# Altium footprint library Footprint.PcbLib: 240 footprints (part 13 of 15)
Each footprint in its own frame and in the unit in brackets; x right, y up, seen from the top. Pads: shape width x height; smd on the part's side, far side on the other; paste and mask are expansions set on the pad; w line width, h text height; cw(c..) or ccw(c..) is an arc to the next point about the centre after c.
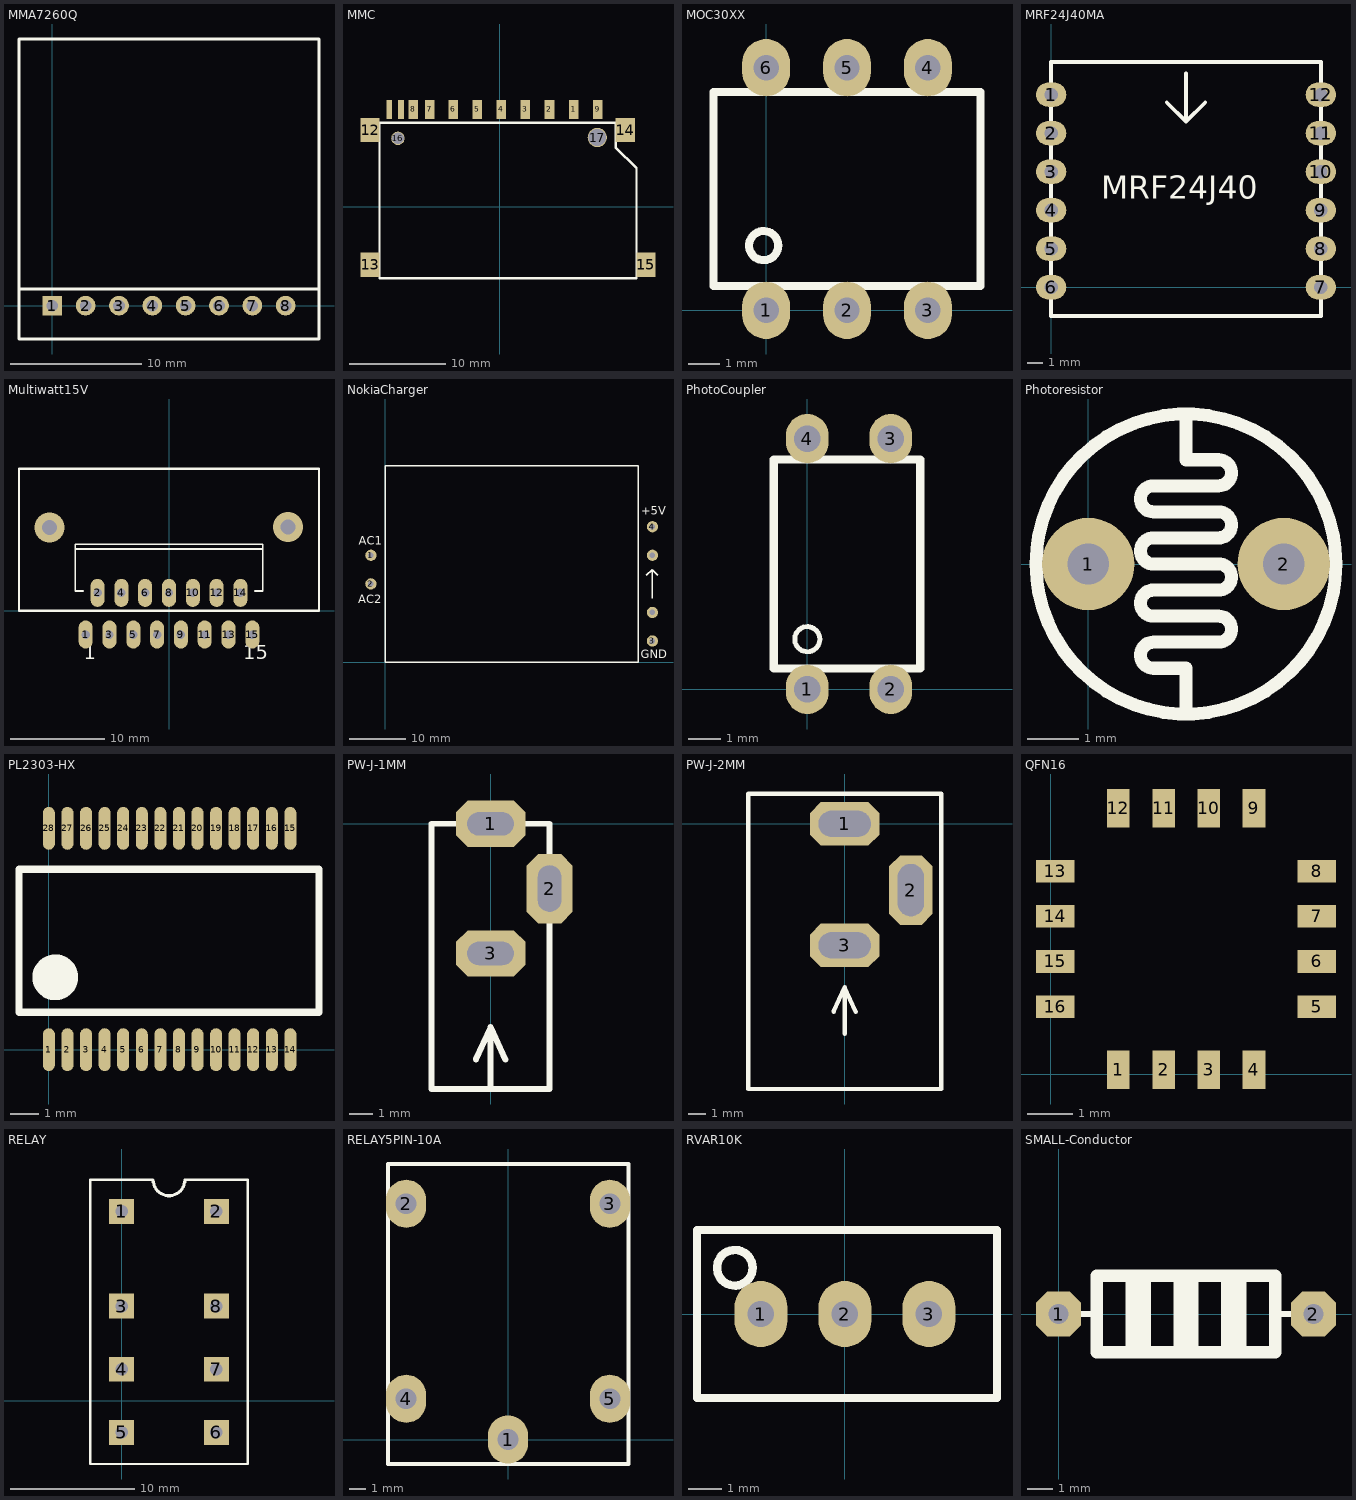
[diagram p12: the footprints below, top view; thin cyan lines are the x and y axes]

## MMA7260Q [mm] "Connector; Header; 8 Position"
pads (8):
  rect 1.5x1.5 hole 0.9: 1(0,0)
  round 1.5 hole 0.9: 2(2.54,0) 3(5.08,0) 4(7.62,0) 5(10.16,0) 6(12.7,0) 7(15.24,0) 8(17.78,0)
Top Overlay:
  lines w0.2: -2.54,1.27 20.32,1.27 ; -2.54,-2.54 20.32,-2.54 20.32,20.32 -2.54,20.32 -2.54,-2.54
3D body: height 1, standoff 0, extent -2.54,-2.54 20.32,20.32
3D body: height 2, standoff 1, extent 7.62,7.62 13.97,13.97

## MMC [mm]
pads (17):
  rect 1x2 smd: 1(7.67,10.109) 2(5.17,10.109) 3(2.67,10.109) 4(0.17,10.109) 5(-2.33,10.109) 6(-4.83,10.109) 7(-7.255,10.109) 8(-8.955,10.109) 9(10.17,10.109)
  rect 0.6x2 smd: 10(-10.255,10.109) 11(-11.455,10.109)
  rect 2x2.5 smd: 12(-13.455,7.95) 13(-13.455,-6.02) 14(13.024,7.95) 15(15.183,-6.02)
  round 1.4 hole 1.2: 16(-10.555,7.109)
  round 2 hole 1.8: 17(10.135,7.188)
Top Overlay:
  lines w0.254: -12.471,-7.417 14.199,-7.417 14.199,4.013 12.04,6.172 12.04,8.712 -12.471,8.712 -12.471,-7.417
3D body: height 3, standoff -1, extent -13.436,-20.196 15.164,9.804

## MOC30XX [mm]
pads (6):
  oval 1.5x1.8 hole 0.8: 1(0,0) 2(2.54,0) 3(5.08,0) 4(5.08,7.62) 5(2.54,7.62) 6(0,7.62)
Top Overlay:
  circle w0.254: c-0.077,2.032 r0.458
  lines w0.254: -1.651,0.762 -1.651,6.858 6.731,6.858 6.731,0.762 -1.651,0.762
3D body: height 4.41, standoff -3.18, extent -1.5,-0.19 6.58,7.81

## MRF24J40MA [mm] "Microchip Zigbee Module"
pads (12):
  oval 2x1.6 hole 0.9: 1(0,12.7) 2(0,10.16) 3(0,7.62) 4(0,5.08) 5(0,2.54) 6(0,0) 7(17.78,0) 8(17.78,2.54) 9(17.78,5.08) 10(17.78,7.62) 11(17.78,10.16) 12(17.78,12.7)
Top Overlay:
  lines w0.254: 0,8.255 0,-1.905 ; 7.62,12.192 8.89,10.922 ; 8.89,14.097 8.89,10.922 ; 10.16,12.192 8.89,10.922 ; 0,-1.905 0,14.859 17.78,14.859 17.78,-1.905 0,-1.905
  text "MRF24J40" at 3.302,5.842 h1.52

## Multiwatt15V [mm] "TO, Thru-Hole, Vertical, Heatsink Mounted; 15 Bent Staggered Leads; Pitch 1.27 mm"
height 21
pads (15):
  oval 1.5x3 hole 0.9: 1(-8.89,-2.54) 2(-7.62,1.905) 3(-6.35,-2.54) 4(-5.08,1.905) 5(-3.81,-2.54) 6(-2.54,1.905) 7(-1.27,-2.54) 8(0,1.905) 9(1.27,-2.54) 10(2.54,1.905) 11(3.81,-2.54) 12(5.08,1.905) 13(6.35,-2.54) 14(7.62,1.905) 15(8.89,-2.54)
via 12.687,8.928 diameter 3.2 hole 1.6
via -12.763,8.903 diameter 3.2 hole 1.6
Top Overlay:
  lines w0.2: -10,6.59 10,6.59 ; -9.144,2.09 -10,2.09 -10,7.09 10,7.09 10,2.09 9.144,2.09
  lines w0.254: -16,0 16,0 16,15.136 -16,15.136 -16,0
  text "1" at -9.12,-5.165 h1.5
  text "15" at 7.94,-5.165 h1.5
3D body: height 22.74, standoff -2.18, extent -9.8,-2.815 9.8,6.253

## NokiaCharger [mm]
pads (6):
  round 2 hole 1: 1(-2.54,19.05) 2(-2.54,13.97) 3(47.54,3.81) 4(47.54,24.13) TEMP(47.54,8.89) TEMP(47.54,19.05)
Top Overlay:
  lines w0.254: 46.482,15.494 47.498,16.51 ; 47.498,11.43 47.498,16.51 ; 48.514,15.494 47.498,16.51 ; 0,0 0,35 ; 0,0 45,0 ; 0,0 45,0 ; 0,35 45,35 ; 0,35 45,35 ; 45,0 45,35
  text "GND" at 45.466,0.762 h1.52
  text "+5V" at 45.593,26.289 h1.52
  text "AC1" at -4.699,20.955 h1.52
  text "AC2" at -4.826,10.541 h1.52

## PhotoCoupler [mm] "Opto quang"
pads (4):
  oval 1.3x1.5 hole 0.8: 1(0,0) 2(2.54,0) 3(2.54,7.62) 4(0,7.62)
Top Overlay:
  circle w0.15: c0,1.524 r0.381
  lines w0.254: -1.016,0.635 -1.016,6.985 3.429,6.985 3.429,0.635 -1.016,0.635
3D body: height 4.31, standoff -3.28, extent -1.532,-0.19 4.008,7.81

## Photoresistor [mm]
pads (2):
  round 1.8 hole 0.8: 1(0,0) 2(3.81,0)
Top Overlay:
  circle w0.254: c1.905,0 r2.924
  lines w0.254: 1.905,-2.921 1.905,-2.032 1.27,-2.032 cw(c1.27,-1.778) 1.27,-1.524 2.54,-1.524 ccw(c2.54,-1.27) 2.54,-1.016 1.27,-1.016 cw(c1.27,-0.762) 1.27,-0.508 2.54,-0.508 ccw(c2.54,-0.254) 2.54,0 1.27,0 cw(c1.27,0.254) 1.27,0.508 2.54,0.508 ccw(c2.54,0.762) 2.54,1.016 1.27,1.016 cw(c1.27,1.27) 1.27,1.524 2.54,1.524 ccw(c2.54,1.778) 2.54,2.032 1.905,2.032 1.905,2.921

## PL2303-HX [mil]
pads (28):
  oval 16.53x59.03 smd mask+7.9: 1(0,0) 2(25.6,0) 3(51.18,0) 4(76.78,0) 5(102.37,0) 6(127.97,0) 7(153.57,0) 8(179.15,0) 9(204.75,0) 10(230.35,0) 11(255.93,0) 12(281.53,0) 13(307.12,0) 14(332.7,0) 15(332.7,305) 16(307.12,305) 17(281.53,305) 18(255.93,305) 19(230.35,305) 20(204.75,305) 21(179.15,305) 22(153.57,305) 23(127.97,305) 24(102.37,305) 25(76.78,305) 26(51.18,305) 27(25.6,305) 28(0,305)
Top Overlay:
  circle w39.37: c8.8,99.7 r11.88
  lines w10: -41.22,51.66 372.21,51.66 372.21,248.53 -41.22,248.53 -41.22,51.66
3D body: height 84.65, standoff 0, extent -37.01,0.01 369.69,305.35

## PW-J-1MM [mm] "Power Header 1mm"
pads (3):
  oct 3x2 hole 1 slot 2 at 0 deg paste+1: 1(0,0) 3(0,-5.588)
  oct 2x3 hole 1 slot 2 at 90 deg paste+1: 2(2.54,-2.794)
Top Overlay:
  lines w0.254: -0.635,-10.16 0,-8.763 ; 0,-11.43 0,-8.763 ; 0.635,-10.16 0,-8.763 ; -2.54,-11.43 2.54,-11.43 2.54,0 -2.54,0 -2.54,-11.43

## PW-J-2MM [mm] "Power Header 2mm"
pads (3):
  oct 4x2.5 hole 1.5 slot 3 at 0 deg paste+1: 1(0,0) 3(0,-6.985)
  oct 2.5x4 hole 1.5 slot 3 at 90 deg paste+1: 2(3.81,-3.81)
Top Overlay:
  lines w0.254: -0.635,-10.795 0,-9.398 ; 0,-12.065 0,-9.398 ; 0.635,-10.795 0,-9.398 ; -5.537,-15.24 -5.537,1.727 5.563,1.727 5.563,-15.24 -5.537,-15.24
3D body: height 11, standoff -3.5, extent -5.564,-15.2 3.836,0

## QFN16 [mm] "QFN 16 LEAD 6x6mm"
height 2
pads (16):
  rect 0.5x0.85 smd: 1(1.5,0.104) 2(2.5,0.104) 3(3.5,0.104) 4(4.5,0.104) 9(4.5,5.89) 10(3.5,5.89) 11(2.5,5.89) 12(1.5,5.89)
  rect 0.85x0.5 smd: 5(5.89,1.5) 6(5.89,2.5) 7(5.89,3.5) 8(5.89,4.5) 13(0.1,4.5) 14(0.1,3.5) 15(0.1,2.5) 16(0.1,1.5)
3D body: height 0.8, standoff 0, extent 0,0 6,6

## RELAY [mm]
pads (8):
  rect 2x2 hole 1: 1(0,15.24) 2(7.62,15.24) 3(0,7.62) 4(0,2.54) 5(0,-2.54) 6(7.62,-2.54) 7(7.62,2.54) 8(7.62,7.62)
Top Overlay:
  lines w0.2: 2.413,17.78 -2.54,17.78 -2.54,-5.08 10.16,-5.08 10.16,17.78 5.08,17.78
  lines w0.254: 2.534,17.78 ccw(c3.81,17.78) 5.086,17.78
3D body: height 12.3, standoff -3, extent -1.09,-4.05 8.71,16.75

## RELAY5PIN-10A [mm]
pads (5):
  oval 2.5x3 hole 1.3: 1(0,0) 2(-6.35,14.7) 3(6.35,14.7) 4(-6.35,2.54) 5(6.35,2.54)
Top Overlay:
  lines w0.254: -7.493,-1.524 -7.493,17.176 7.507,17.176 7.507,-1.524 -7.493,-1.524
3D body: height 16, standoff 0, extent -7.493,-1.524 7.493,17.145

## RVAR10K [mm] "Bien tro vi chinh"
pads (3):
  oval 1.6x2 hole 0.8: 1(-2.54,0) 2(0,0) 3(2.54,0)
Top Overlay:
  circle w0.254: c-3.327,1.397 r0.539
  lines w0.254: -4.47,-2.54 4.597,-2.54 4.597,2.54 -4.47,2.54 -4.47,-2.54
3D body: height 12.02, standoff -5.48, extent -4.537,-2.4 4.663,2.4

## SMALL-Conductor [mm] "Small value conductor"
pads (2):
  oct 1.8x1.8 hole 0.8: 1(0,0) 2(10.16,0)
Top Overlay:
  rectangle: 6.477,-1.524 7.493,1.524
  rectangle: 2.667,-1.524 3.683,1.524
  rectangle: 4.572,-1.524 5.588,1.524
  lines w0.254: 0,0 1.524,0 ; 8.89,0 10.16,0
  lines w0.5: 1.524,-1.524 1.524,1.524 8.636,1.524 8.636,-1.524 1.524,-1.524